# Altium footprint library 拨码开关.PcbLib: 1 footprints
Each footprint in its own frame and in the unit in brackets; x right, y up, seen from the top. Pads: shape width x height; smd on the part's side, far side on the other; paste and mask are expansions set on the pad; w line width, h text height; cw(c..) or ccw(c..) is an arc to the next point about the centre after c.
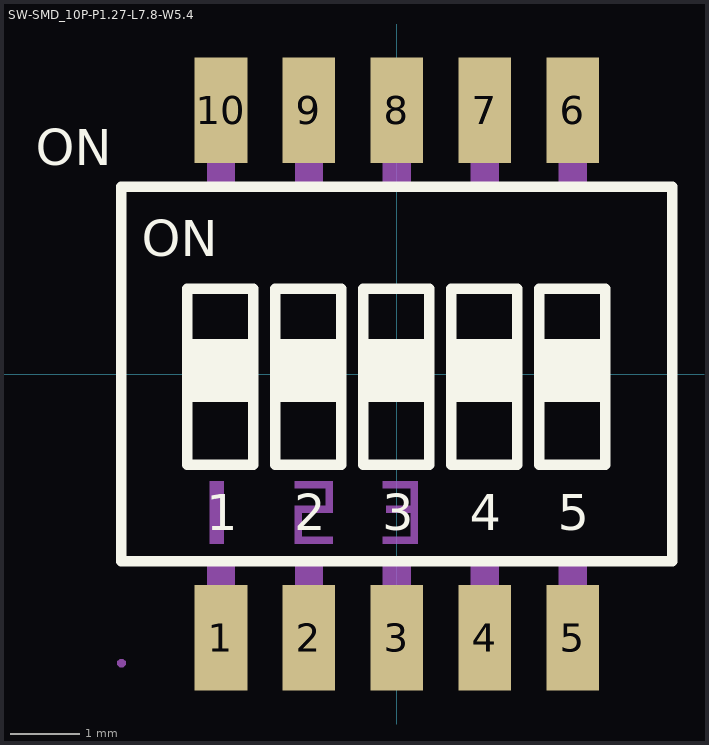
[diagram p0: the footprint, top view; thin cyan lines are the x and y axes]

## SW-SMD_10P-P1.27-L7.8-W5.4 [mil]
pads (10):
  rect 30x60 smd: 1(-100,-150) 2(-50,-150) 3(0,-150) 4(50,-150) 5(100,-150) 6(100,150) 7(50,150) 8(0,150) 9(-50,150) 10(-100,150)
Top Overlay:
  region: -118.62,21.26 -118.62,17.91 -120.63,15.9
  region: -118.11,19.68 -82.68,19.68 -82.68,-15.75 -118.11,-15.75
  region: -68.11,19.68 -32.68,19.68 -32.68,-15.75 -68.11,-15.75
  region: -18.11,19.68 17.32,19.68 17.32,-15.75 -18.11,-15.75
  region: 31.89,19.68 67.32,19.68 67.32,-15.75 31.89,-15.75
  region: 81.89,19.68 117.32,19.68 117.32,-15.75 81.89,-15.75
  lines w5.98: 156.3,106.06 156.06,106.3 -156.5,106.3 -156.5,-106.3 156.5,-106.3 156.5,106.3 ; -118.98,-51.61 -81.5,-51.61 -81.5,48.39 -118.98,48.39 -118.98,-51.61 ; -68.98,-51.61 -31.5,-51.61 -31.5,48.39 -68.98,48.39 -68.98,-51.61 ; -18.98,-51.61 18.5,-51.61 18.5,48.39 -18.98,48.39 -18.98,-51.61 ; 31.02,-51.61 68.5,-51.61 68.5,48.39 31.02,48.39 31.02,-51.61 ; 81.02,-51.61 118.5,-51.61 118.5,48.39 81.02,48.39 81.02,-51.61
  text "ON" at -144.86,66.99 h20.44
  text "1" at -108.42,-88.75 h20.59
  text "2" at -58.42,-88.75 h20.59
  text "3" at -8.42,-88.75 h20.59
  text "4" at 41.58,-88.75 h20.59
  text "5" at 91.57,-88.75 h20.59
  text "ON" at -205.18,118.75 h20.44
Mechanical 6:
  region: -106.3,-61.02 -106.3,-96.46 -102.36,-96.46 -98.42,-96.46 -98.42,-61.02
  region: -58.07,-61.02 -36.42,-61.02 -36.42,-78.74 -54.13,-78.74 -54.13,-90.55 -54.13,-92.52 -36.42,-92.52 -36.42,-96.46 -58.07,-96.46 -58.07,-74.8 -40.35,-74.8 -40.35,-64.96 -58.07,-64.96
  region: -7.87,-61.02 11.81,-61.02 11.81,-96.46 -7.87,-96.46 -7.87,-92.52 7.87,-92.52 7.87,-78.74 -5.91,-78.74 -5.91,-74.8 7.87,-74.8 7.87,-64.96 -7.87,-64.96
Mechanical 15:
  region: -154.14,-164.37 -154.14,-163.39 -155.52,-162.01 -157.48,-162.01 -158.86,-163.39 -158.86,-164.37 -158.86,-165.35 -157.48,-166.73 -155.52,-166.73 -154.14,-165.35 -154.14,-164.37
  region: -7.87,-132.09 -7.87,-105.91 7.87,-105.91 7.87,-132.09
  region: -7.87,-164.37 -7.87,-131.69 7.87,-131.69 7.87,-164.37
  region: 42.13,-132.09 42.13,-105.91 57.87,-105.91 57.87,-132.09
  region: 42.13,-164.37 42.13,-131.69 57.87,-131.69 57.87,-164.37
  region: 92.12,-132.09 92.12,-105.91 107.87,-105.91 107.87,-132.09
  region: 92.12,-164.37 92.12,-131.69 107.87,-131.69 107.87,-164.37
  region: -57.87,-132.09 -57.87,-105.91 -42.13,-105.91 -42.13,-132.09
  region: -57.87,-164.37 -57.87,-131.69 -42.13,-131.69 -42.13,-164.37
  region: -107.87,-132.09 -107.87,-105.91 -92.13,-105.91 -92.13,-132.09
  region: -107.87,-164.37 -107.87,-131.69 -92.13,-131.69 -92.13,-164.37
  region: -107.87,105.91 -107.87,132.09 -92.13,132.09 -92.13,105.91
  region: -107.87,131.69 -107.87,164.37 -92.13,164.37 -92.13,131.69
  region: -57.87,105.91 -57.87,132.09 -42.13,132.09 -42.13,105.91
  region: -57.87,131.69 -57.87,164.37 -42.13,164.37 -42.13,131.69
  region: -7.87,105.91 -7.87,132.09 7.87,132.09 7.87,105.91
  region: -7.87,131.69 -7.87,164.37 7.87,164.37 7.87,131.69
  region: 42.13,105.91 42.13,132.09 57.87,132.09 57.87,105.91
  region: 42.13,131.69 42.13,164.37 57.87,164.37 57.87,131.69
  region: 92.12,105.91 92.12,132.09 107.87,132.09 107.87,105.91
  region: 92.12,131.69 92.12,164.37 107.87,164.37 107.87,131.69
  lines w2: -156.5,-106.3 -156.5,106.3 156.5,106.3 156.5,-106.3 -156.5,-106.3
3D body "U2.step": height 90.55, standoff 0, extent -156.5,-164.37 156.5,164.37